# Altium schematic symbol library DC_DC_12V.SchLib: 1 symbol
Pins are listed as number, name and electrical type; pins without a type are passive.

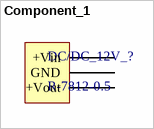
[diagram p0: symbol Component_1]

## Component_1
designator DC/DC_12V_?, comment R-7812-0.5
Non-Isolated DC/DC Converters 0.5A DC/DC REG 15-34Vin 12Vout
footprint PCBComponent_1
pins: 1 +Vin, 2 GND, 3 +Vout